# EAGLE library part CMA4 (library takeyama)
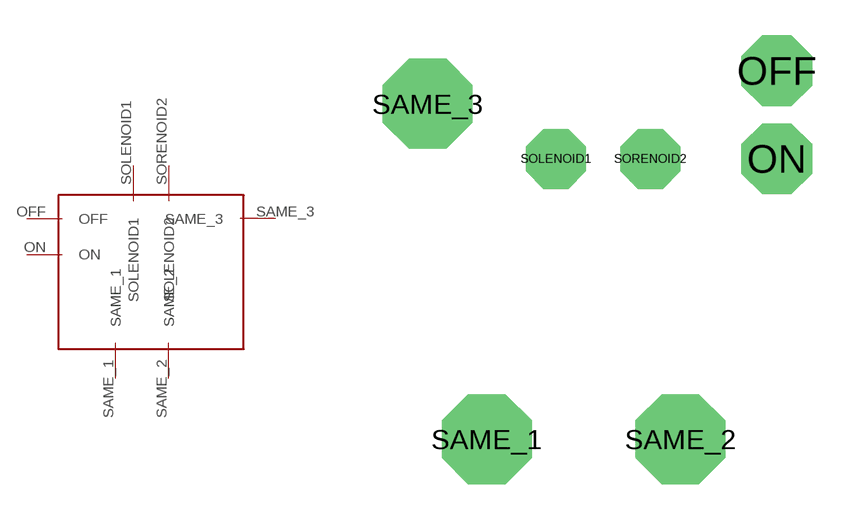
[diagram p2: symbol with the pads of CMA4; footprint CMA4]

Designator prefix -

## CMA4  [CMA4]
OFF  OFF  pwr
ON  ON  pwr
SAME_1  SAME_1  pwr
SAME_2  SAME_2  pwr
SAME_3  SAME_3  pwr
SOLENOID1  SOLENOID1  pwr
SORENOID2  SOLENOID2  pwr

## Footprint CMA4 (pad centres in mm)
drill 2 pad 2.54 octagon: OFF 4.08,15.6; ON 4.08,11.87
drill 2.2 pad 3.81 octagon: SAME_1 -8.2,0; SAME_2 0,0; SAME_3 -10.7,14.2
drill 1.4 pad 2.54 octagon: SOLENOID1 -5.27,11.87; SORENOID2 -1.27,11.87